# Altium integrated library TI Amplifiers and Linear Operational Amplifier High Speed.IntLib: 1100 symbols (part 4 of 44)
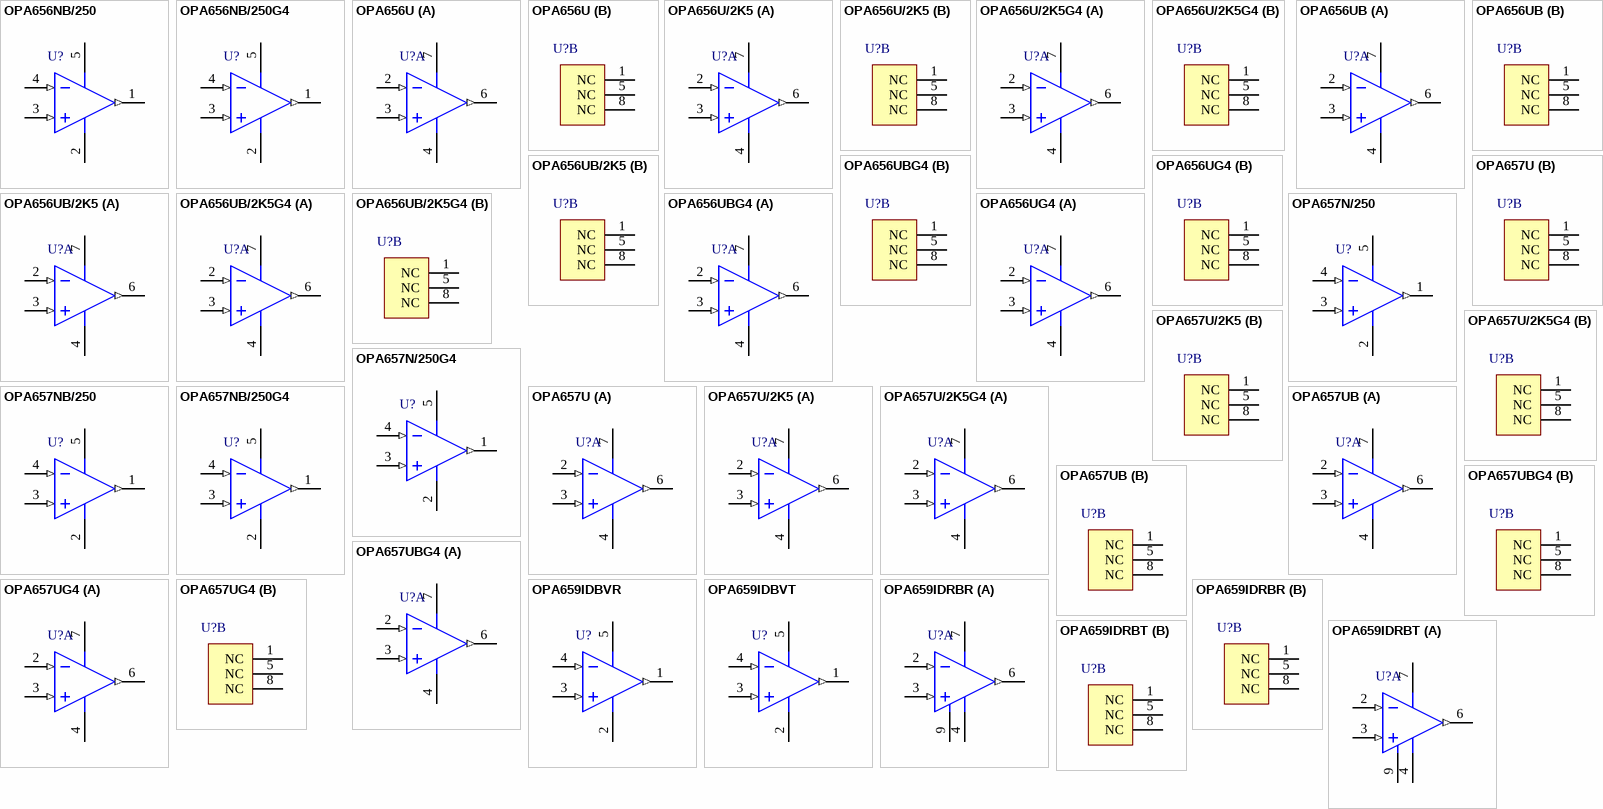
[diagram p54: symbols OPA656NB/250 to OPA659IDRBT]

## OPA659IDBVT
designator U?
650 MHz Unity Gain Stable JFET Input Amplifier, 7 to 13 V, -40 to 85 degC, 5-pin SOT23 (DBV5), Green (RoHS & no Sb/Br); Manufacturer: Texas Instruments; PartNumber: OPA659IDBVT; 2nd Harmonic(dBc): 79; 3rd Harmonic(dBc): 100; @ MHz: 10; Acl, min stable gain(V/V): 2; BW @ Acl(MHz): 650; Iib(Max)(nA): 1.2; Io(Typ)(mA): 70; Iq per channel(Max)(mA): 33.5; Number of Channels: 1; Slew Rate(Typ)(V/us): 2550; Sub Family: High Output Current Amplifier (>=50mA), High Speed Amplifier (>=50MHz); THD (Fc is 1 MHz)(Typ)(dB): -78; Vio(Max)(mV): 5; Vn at Flatband(Typ)(nV/rtHz): 8.9; Vs(Max)(V): 13; Vs(Min)(V): 7; DatasheetVersion: SBOS342B; PackageVersion: 4073253-4/K, 03/2006; PackageReference: DBV5; PackageDescription: 5-Pin Plastic Small Outline, Body 1.6 x 2.9 mm, Pitch 0.95 mm; Supplier 1: Digi-Key; Supplier Part Number 1: 296-24971-2-ND; Supplier 2: Digi-Key; Supplier Part Number 2: 296-24971-1-ND; Supplier 3: Digi-Key; Supplier Part Number 3: 296-24971-6-ND; Supplier 4: Farnell; Supplier Part Number 4: 1909738; Supplier 5: Newark; Supplier Part Number 5: 86W6765; Supplier 6: Newark; Supplier Part Number 6: 50R7822; Supplier 7: Newark; Supplier Part Number 7: 58T2107; Supplier 8: Mouser; Supplier Part Number 8: 595-OPA659IDBVT; Eco-Plan: Green (RoHS & no Sb/Br); Mounting Technology: Surface Mount; Code_JEDEC: MO-178; ComponentLink1Description: Manufacturer URL; ComponentLink1URL: http://www.ti.com/; ComponentLink2Description: Datasheet; ComponentLink2URL: http://www.ti.com/general/docs/lit/getliterature.tsp?genericPartNumber=OPA659&fileType=pdf; ComponentLink3Description: Package Specification; ComponentLink3URL: http://www.ti.com/litv/pdf/mpds018i
footprint TI-DBV5_N (SOT23, 5-Leads, Body 2.9x1.6mm, Pitch 0.95mm, IPC Medium Density)
footprint TI-DBV5_L (SOT23, 5-Leads, Body 2.9x1.6mm, Pitch 0.95mm, IPC High Density)
footprint TI-DBV5_M (SOT23, 5-Leads, Body 2.9x1.6mm, Pitch 0.95mm, IPC Low Density)
pins: 1 OUT (out), 2 VS- (power), 3 IN+ (in), 4 IN- (in), 5 VS+ (power)

## OPA659IDRBR
designator U?
650 MHz Unity Gain Stable JFET Input Amplifier, 7 to 13 V, -40 to 85 degC, 8-pin SON (DRB8), Green (RoHS & no Sb/Br); Manufacturer: Texas Instruments; PartNumber: OPA659IDRBR; 2nd Harmonic(dBc): 79; 3rd Harmonic(dBc): 100; @ MHz: 10; Acl, min stable gain(V/V): 2; BW @ Acl(MHz): 650; Iib(Max)(nA): 1.2; Io(Typ)(mA): 70; Iq per channel(Max)(mA): 33.5; Number of Channels: 1; Slew Rate(Typ)(V/us): 2550; Sub Family: High Output Current Amplifier (>=50mA), High Speed Amplifier (>=50MHz); THD (Fc is 1 MHz)(Typ)(dB): -78; Vio(Max)(mV): 5; Vn at Flatband(Typ)(nV/rtHz): 8.9; Vs(Max)(V): 13; Vs(Min)(V): 7; DatasheetVersion: SBOS342B; PackageVersion: 4203482-2/K, 06/2012; PackageReference: DRB8-1750X1500TP; PackageDescription: 8-Pin Plastic Small Outline, Body 3 x 3 mm, Pitch 0.65 mm; Supplier 1: Digi-Key; Supplier Part Number 1: OPA659IDRBR-ND; Supplier 2: Mouser; Supplier Part Number 2: 595-OPA659IDRBR; Eco-Plan: Green (RoHS & no Sb/Br); Mounting Technology: Surface Mount; ComponentLink1Description: Manufacturer URL; ComponentLink1URL: http://www.ti.com/; ComponentLink2Description: Datasheet; ComponentLink2URL: http://www.ti.com/general/docs/lit/getliterature.tsp?genericPartNumber=OPA659&fileType=pdf; ComponentLink3Description: Package Specification; ComponentLink3URL: http://www.ti.com/litv/pdf/mpds118h
footprint TI-DRB8-1750X1500TP_V (SON, 8-Leads, Body 3x3mm, Pitch 0.65mm, Thermal Pad 1.50 x 3.8mm)
part A pins: 2 IN- (in), 3 IN+ (in), 4 VS- (power), 6 OUT (out), 7 VS+ (power), 9 EP
part B pins: 1 NC "NC = not connected.", 5 NC "NC = not connected.", 8 NC "NC = not connected."

## OPA659IDRBT
designator U?
650 MHz Unity Gain Stable JFET Input Amplifier, 7 to 13 V, -40 to 85 degC, 8-pin SON (DRB8), Green (RoHS & no Sb/Br); Manufacturer: Texas Instruments; PartNumber: OPA659IDRBT; 2nd Harmonic(dBc): 79; 3rd Harmonic(dBc): 100; @ MHz: 10; Acl, min stable gain(V/V): 2; BW @ Acl(MHz): 650; Iib(Max)(nA): 1.2; Io(Typ)(mA): 70; Iq per channel(Max)(mA): 33.5; Number of Channels: 1; Settling Time (0.1%)(Typ)(ns): 8; Slew Rate(Typ)(V/us): 2550; Sub Family: High Output Current Amplifier (>=50mA), High Speed Amplifier (>=50MHz); THD (Fc is 1 MHz)(Typ)(dB): -78; Vn at Flatband(Typ)(nV/rtHz): 8.9; Vs(Max)(V): 13; Vs(Min)(V): 7; DatasheetVersion: SBOS342B; PackageVersion: 4203482-2/K, 06/2012; PackageReference: DRB8-1750X1500TP; PackageDescription: 8-Pin Plastic Small Outline, Body 3 x 3 mm, Pitch 0.65 mm; Supplier 1: Digi-Key; Supplier Part Number 1: 296-24074-2-ND; Supplier 2: Digi-Key; Supplier Part Number 2: 296-24074-1-ND; Supplier 3: Digi-Key; Supplier Part Number 3: 296-24074-6-ND; Supplier 4: Farnell; Supplier Part Number 4: 1710802; Supplier 5: Newark; Supplier Part Number 5: 46P3783; Supplier 6: Mouser; Supplier Part Number 6: 595-OPA659IDRBT; Eco-Plan: Green (RoHS & no Sb/Br); Vio(Max)(mV): 1; Mounting Technology: Surface Mount; ComponentLink1Description: Manufacturer URL; ComponentLink1URL: http://www.ti.com/; ComponentLink2Description: Datasheet; ComponentLink2URL: http://www.ti.com/general/docs/lit/getliterature.tsp?genericPartNumber=OPA659&fileType=pdf; ComponentLink3Description: Package Specification; ComponentLink3URL: http://www.ti.com/litv/pdf/mpds118h
footprint TI-DRB8-1750X1500TP_V (SON, 8-Leads, Body 3x3mm, Pitch 0.65mm, Thermal Pad 1.50 x 3.8mm)
part A pins: 2 IN- (in), 3 IN+ (in), 4 VS- (power), 6 OUT (out), 7 VS+ (power), 9 EP
part B pins: 1 NC "NC = not connected.", 5 NC "NC = not connected.", 8 NC "NC = not connected."

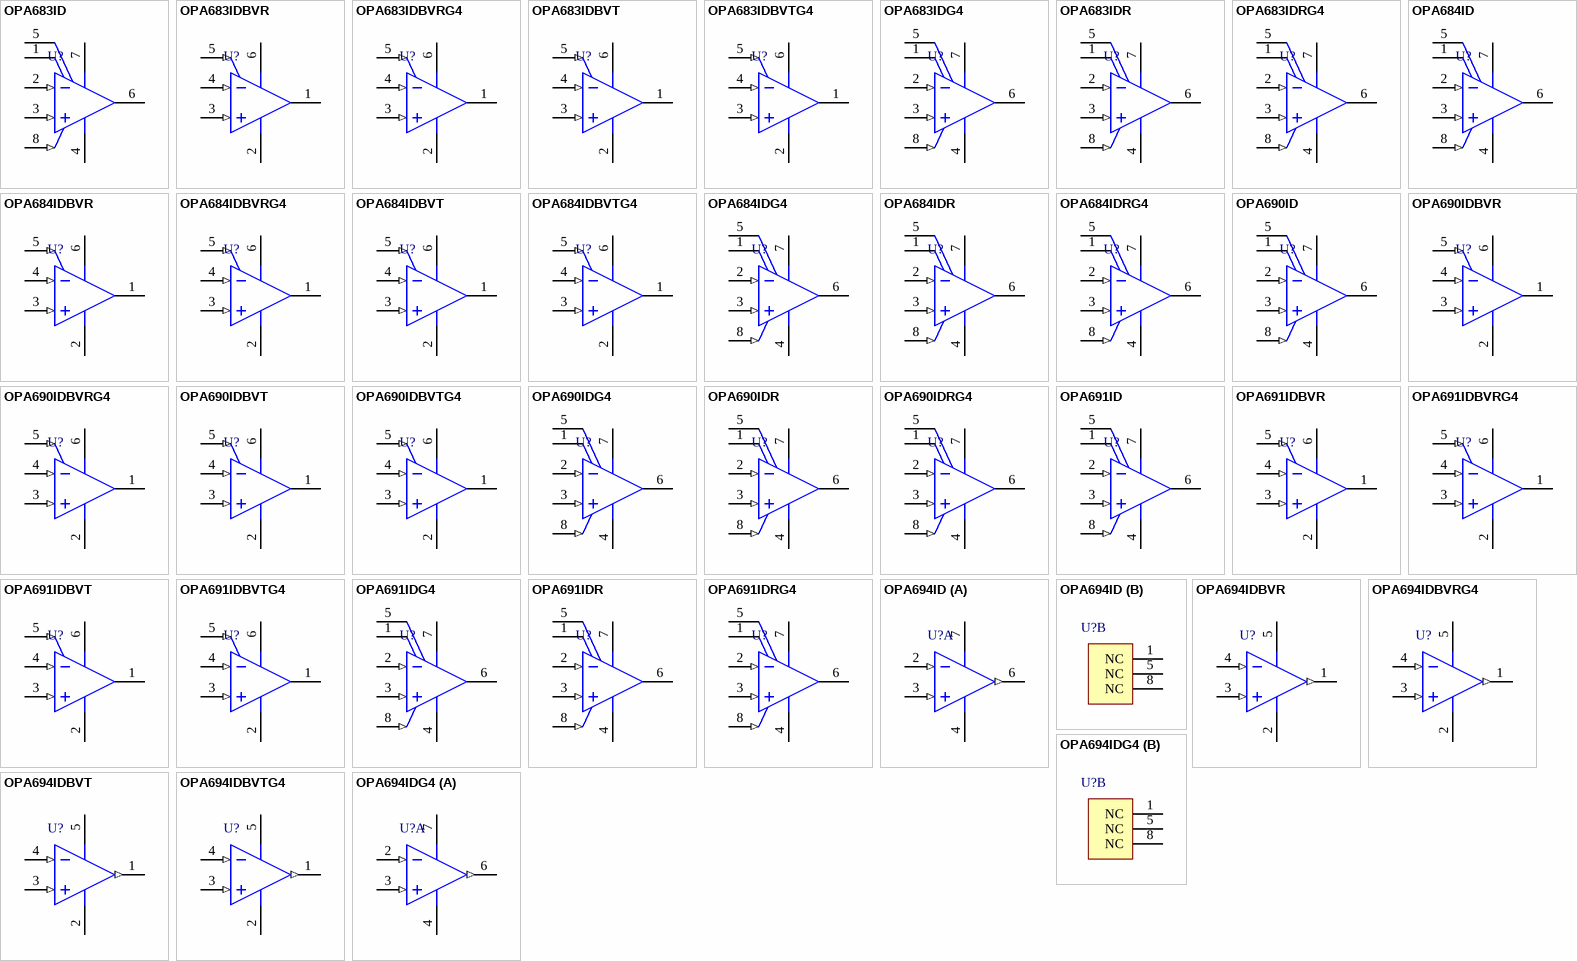
[diagram p3: symbols OPA683ID to OPA694IDG4]

## OPA683ID
designator U?
Very Low Power Current Feedback Amplifier with Disable, 5 to 12 V, -40 to 85 degC, 8-pin SOIC (D8), Green (RoHS & no Sb/Br); Manufacturer: Texas Instruments; PartNumber: OPA683ID; 2nd Harmonic(dBc): 72; 3rd Harmonic(dBc): 88; @ MHz: 5; Acl, min stable gain(V/V): 1; BW @ Acl(MHz): 200; Diff Gain(%): 0.13; Diff Phase(deg): 0.06; Iib(Max)(nA): 5300; Io(Typ)(mA): 110; Iq per channel(Max)(mA): 1.03; Settling Time (0.1%)(Typ)(ns): 12; Slew Rate(Typ)(V/us): 400; Sub Family: High Output Current Amplifier (>=50mA), High Speed Amplifier (>=50MHz); THD (Fc is 1 MHz)(Typ)(dB): -90; Vio(Max)(mV): 3.5; Vn at Flatband(Typ)(nV/rtHz): 4.4; DatasheetVersion: SBOS221E; PackageVersion: 4040047-3/M, 06/2011; PackageReference: D8; PackageDescription: 8-Pin Plastic Small Outline, Body 4.9 x 3.9 mm, Pitch 1.27 mm; Supplier 1: Digi-Key; Supplier Part Number 1: 296-12854-5-ND; Supplier 2: Farnell; Supplier Part Number 2: 1459642; Supplier 3: Newark; Supplier Part Number 3: 75C5170; Supplier 4: Mouser; Supplier Part Number 4: 595-OPA683ID; Eco-Plan: Green (RoHS & no Sb/Br); Number of Channels: 1; Vs(Max)(V): 12; Vs(Min)(V): 5; Mounting Technology: Surface Mount; Code_JEDEC: MS-012; ComponentLink1Description: Manufacturer URL; ComponentLink1URL: http://www.ti.com/; ComponentLink2Description: Datasheet; ComponentLink2URL: http://www.ti.com/general/docs/lit/getliterature.tsp?genericPartNumber=OPA683&fileType=pdf; ComponentLink3Description: Package Specification; ComponentLink3URL: http://www.ti.com/litv/pdf/msoi002j
footprint TI-D8_N (SOIC, 8-Leads, Body 4.9x3.9mm, Pitch 1.27mm, IPC Medium Density)
footprint TI-D8_L (SOIC, 8-Leads, Body 4.9x3.9mm, Pitch 1.27mm, IPC High Density)
footprint TI-D8_M (SOIC, 8-Leads, Body 4.9x3.9mm, Pitch 1.27mm, IPC Low Density)
pins: 1 NC, 2 IN- (in), 3 IN+ (in), 4 VS- (power), 5 NC, 6 OUT (hiz), 7 VS+ (power), 8 ~{DIS} (in)

## OPA683IDBVR
designator U?
Very Low Power Current Feedback Amplifier with Disable, 5 to 12 V, -40 to 85 degC, 6-pin SOT23 (DBV6), Green (RoHS & no Sb/Br); Manufacturer: Texas Instruments; PartNumber: OPA683IDBVR; 2nd Harmonic(dBc): 72; 3rd Harmonic(dBc): 88; @ MHz: 5; Acl, min stable gain(V/V): 1; BW @ Acl(MHz): 200; Diff Gain(%): 0.13; Diff Phase(deg): 0.06; Iib(Max)(nA): 5300; Io(Typ)(mA): 110; Iq per channel(Max)(mA): 1.03; Settling Time (0.1%)(Typ)(ns): 12; Slew Rate(Typ)(V/us): 400; Sub Family: High Output Current Amplifier (>=50mA), High Speed Amplifier (>=50MHz); THD (Fc is 1 MHz)(Typ)(dB): -90; Vio(Max)(mV): 3.5; Vn at Flatband(Typ)(nV/rtHz): 4.4; DatasheetVersion: SBOS221E; PackageVersion: 4073253-5/K, 03/2006; PackageReference: DBV6; PackageDescription: 6-Pin Plastic Small Outline, Body 1.6 x 2.9 mm, Pitch 0.95 mm; Supplier 1: Digi-Key; Supplier Part Number 1: OPA683IDBVR-ND; Supplier 2: Newark; Supplier Part Number 2: 75C5171; Supplier 3: Mouser; Supplier Part Number 3: 595-OPA683IDBVR; Eco-Plan: Green (RoHS & no Sb/Br); Number of Channels: 1; Vs(Max)(V): 12; Vs(Min)(V): 5; Mounting Technology: Surface Mount; Code_JEDEC: MO-178; ComponentLink1Description: Manufacturer URL; ComponentLink1URL: http://www.ti.com/; ComponentLink2Description: Datasheet; ComponentLink2URL: http://www.ti.com/general/docs/lit/getliterature.tsp?genericPartNumber=OPA683&fileType=pdf; ComponentLink3Description: Package Specification; ComponentLink3URL: http://www.ti.com/litv/pdf/mpds026h
footprint TI-DBV6_N (SOT23, 6-Leads, Body 2.9x1.6mm, Pitch 0.95mm, IPC Medium Density)
footprint TI-DBV6_L (SOT23, 6-Leads, Body 2.9x1.6mm, Pitch 0.95mm, IPC High Density)
footprint TI-DBV6_M (SOT23, 6-Leads, Body 2.9x1.6mm, Pitch 0.95mm, IPC Low Density)
pins: 1 OUT (hiz), 2 VS- (power), 3 IN+ (in), 4 IN- (in), 5 ~{DIS} (in), 6 VS+ (power)

## OPA683IDBVRG4
designator U?
Very Low Power Current Feedback Amplifier with Disable, 5 to 12 V, -40 to 85 degC, 6-pin SOT23 (DBV6), Green (RoHS & no Sb/Br); Manufacturer: Texas Instruments; PartNumber: OPA683IDBVRG4; 2nd Harmonic(dBc): 72; 3rd Harmonic(dBc): 88; @ MHz: 5; Acl, min stable gain(V/V): 1; BW @ Acl(MHz): 200; Diff Gain(%): 0.13; Diff Phase(deg): 0.06; Iib(Max)(nA): 5300; Io(Typ)(mA): 110; Iq per channel(Max)(mA): 1.03; Settling Time (0.1%)(Typ)(ns): 12; Slew Rate(Typ)(V/us): 400; Sub Family: High Output Current Amplifier (>=50mA), High Speed Amplifier (>=50MHz); THD (Fc is 1 MHz)(Typ)(dB): -90; Vio(Max)(mV): 3.5; Vn at Flatband(Typ)(nV/rtHz): 4.4; DatasheetVersion: SBOS221E; PackageVersion: 4073253-5/K, 03/2006; PackageReference: DBV6; PackageDescription: 6-Pin Plastic Small Outline, Body 1.6 x 2.9 mm, Pitch 0.95 mm; Supplier 1: Digi-Key; Supplier Part Number 1: OPA683IDBVRG4-ND; Supplier 2: Mouser; Supplier Part Number 2: 595-OPA683IDBVRG4; Eco-Plan: Green (RoHS & no Sb/Br); Number of Channels: 1; Vs(Max)(V): 12; Vs(Min)(V): 5; Mounting Technology: Surface Mount; Code_JEDEC: MO-178; ComponentLink1Description: Manufacturer URL; ComponentLink1URL: http://www.ti.com/; ComponentLink2Description: Datasheet; ComponentLink2URL: http://www.ti.com/general/docs/lit/getliterature.tsp?genericPartNumber=OPA683&fileType=pdf; ComponentLink3Description: Package Specification; ComponentLink3URL: http://www.ti.com/litv/pdf/mpds026h
footprint TI-DBV6_N (SOT23, 6-Leads, Body 2.9x1.6mm, Pitch 0.95mm, IPC Medium Density)
footprint TI-DBV6_L (SOT23, 6-Leads, Body 2.9x1.6mm, Pitch 0.95mm, IPC High Density)
footprint TI-DBV6_M (SOT23, 6-Leads, Body 2.9x1.6mm, Pitch 0.95mm, IPC Low Density)
pins: 1 OUT (hiz), 2 VS- (power), 3 IN+ (in), 4 IN- (in), 5 ~{DIS} (in), 6 VS+ (power)

## OPA683IDBVT
designator U?
Very Low Power Current Feedback Amplifier with Disable, 5 to 12 V, -40 to 85 degC, 6-pin SOT23 (DBV6), Green (RoHS & no Sb/Br); Manufacturer: Texas Instruments; PartNumber: OPA683IDBVT; 2nd Harmonic(dBc): 72; 3rd Harmonic(dBc): 88; @ MHz: 5; Acl, min stable gain(V/V): 1; BW @ Acl(MHz): 200; Diff Gain(%): 0.13; Diff Phase(deg): 0.06; Iib(Max)(nA): 5300; Io(Typ)(mA): 110; Iq per channel(Max)(mA): 1.03; Settling Time (0.1%)(Typ)(ns): 12; Slew Rate(Typ)(V/us): 400; Sub Family: High Output Current Amplifier (>=50mA), High Speed Amplifier (>=50MHz); THD (Fc is 1 MHz)(Typ)(dB): -90; Vio(Max)(mV): 3.5; Vn at Flatband(Typ)(nV/rtHz): 4.4; DatasheetVersion: SBOS221E; PackageVersion: 4073253-5/K, 03/2006; PackageReference: DBV6; PackageDescription: 6-Pin Plastic Small Outline, Body 1.6 x 2.9 mm, Pitch 0.95 mm; Supplier 1: Digi-Key; Supplier Part Number 1: 296-12855-2-ND; Supplier 2: Digi-Key; Supplier Part Number 2: 296-12855-1-ND; Supplier 3: Digi-Key; Supplier Part Number 3: 296-12855-6-ND; Supplier 4: Newark; Supplier Part Number 4: 75C5172; Supplier 5: Mouser; Supplier Part Number 5: 595-OPA683IDBVT; Eco-Plan: Green (RoHS & no Sb/Br); Number of Channels: 1; Vs(Max)(V): 12; Vs(Min)(V): 5; Mounting Technology: Surface Mount; Code_JEDEC: MO-178; ComponentLink1Description: Manufacturer URL; ComponentLink1URL: http://www.ti.com/; ComponentLink2Description: Datasheet; ComponentLink2URL: http://www.ti.com/general/docs/lit/getliterature.tsp?genericPartNumber=OPA683&fileType=pdf; ComponentLink3Description: Package Specification; ComponentLink3URL: http://www.ti.com/litv/pdf/mpds026h
footprint TI-DBV6_N (SOT23, 6-Leads, Body 2.9x1.6mm, Pitch 0.95mm, IPC Medium Density)
footprint TI-DBV6_L (SOT23, 6-Leads, Body 2.9x1.6mm, Pitch 0.95mm, IPC High Density)
footprint TI-DBV6_M (SOT23, 6-Leads, Body 2.9x1.6mm, Pitch 0.95mm, IPC Low Density)
pins: 1 OUT (hiz), 2 VS- (power), 3 IN+ (in), 4 IN- (in), 5 ~{DIS} (in), 6 VS+ (power)

## OPA683IDBVTG4
designator U?
Very Low Power Current Feedback Amplifier with Disable, 5 to 12 V, -40 to 85 degC, 6-pin SOT23 (DBV6), Green (RoHS & no Sb/Br); Manufacturer: Texas Instruments; PartNumber: OPA683IDBVTG4; 2nd Harmonic(dBc): 72; 3rd Harmonic(dBc): 88; @ MHz: 5; Acl, min stable gain(V/V): 1; BW @ Acl(MHz): 200; Diff Gain(%): 0.13; Diff Phase(deg): 0.06; Iib(Max)(nA): 5300; Io(Typ)(mA): 110; Iq per channel(Max)(mA): 1.03; Settling Time (0.1%)(Typ)(ns): 12; Slew Rate(Typ)(V/us): 400; Sub Family: High Output Current Amplifier (>=50mA), High Speed Amplifier (>=50MHz); THD (Fc is 1 MHz)(Typ)(dB): -90; Vio(Max)(mV): 3.5; Vn at Flatband(Typ)(nV/rtHz): 4.4; DatasheetVersion: SBOS221E; PackageVersion: 4073253-5/K, 03/2006; PackageReference: DBV6; PackageDescription: 6-Pin Plastic Small Outline, Body 1.6 x 2.9 mm, Pitch 0.95 mm; Supplier 1: Digi-Key; Supplier Part Number 1: OPA683IDBVTG4-ND; Supplier 2: Mouser; Supplier Part Number 2: 595-OPA683IDBVTG4; Eco-Plan: Green (RoHS & no Sb/Br); Number of Channels: 1; Vs(Max)(V): 12; Vs(Min)(V): 5; Mounting Technology: Surface Mount; Code_JEDEC: MO-178; ComponentLink1Description: Manufacturer URL; ComponentLink1URL: http://www.ti.com/; ComponentLink2Description: Datasheet; ComponentLink2URL: http://www.ti.com/general/docs/lit/getliterature.tsp?genericPartNumber=OPA683&fileType=pdf; ComponentLink3Description: Package Specification; ComponentLink3URL: http://www.ti.com/litv/pdf/mpds026h
footprint TI-DBV6_N (SOT23, 6-Leads, Body 2.9x1.6mm, Pitch 0.95mm, IPC Medium Density)
footprint TI-DBV6_L (SOT23, 6-Leads, Body 2.9x1.6mm, Pitch 0.95mm, IPC High Density)
footprint TI-DBV6_M (SOT23, 6-Leads, Body 2.9x1.6mm, Pitch 0.95mm, IPC Low Density)
pins: 1 OUT (hiz), 2 VS- (power), 3 IN+ (in), 4 IN- (in), 5 ~{DIS} (in), 6 VS+ (power)

## OPA683IDG4
designator U?
Very Low Power Current Feedback Amplifier with Disable, 5 to 12 V, -40 to 85 degC, 8-pin SOIC (D8), Green (RoHS & no Sb/Br); Manufacturer: Texas Instruments; PartNumber: OPA683IDG4; 2nd Harmonic(dBc): 72; 3rd Harmonic(dBc): 88; @ MHz: 5; Acl, min stable gain(V/V): 1; BW @ Acl(MHz): 200; Diff Gain(%): 0.13; Diff Phase(deg): 0.06; Iib(Max)(nA): 5300; Io(Typ)(mA): 110; Iq per channel(Max)(mA): 1.03; Settling Time (0.1%)(Typ)(ns): 12; Slew Rate(Typ)(V/us): 400; Sub Family: High Output Current Amplifier (>=50mA), High Speed Amplifier (>=50MHz); THD (Fc is 1 MHz)(Typ)(dB): -90; Vio(Max)(mV): 3.5; Vn at Flatband(Typ)(nV/rtHz): 4.4; DatasheetVersion: SBOS221E; PackageVersion: 4040047-3/M, 06/2011; PackageReference: D8; PackageDescription: 8-Pin Plastic Small Outline, Body 4.9 x 3.9 mm, Pitch 1.27 mm; Supplier 1: Digi-Key; Supplier Part Number 1: OPA683IDG4-ND; Supplier 2: Mouser; Supplier Part Number 2: 595-OPA683IDG4; Eco-Plan: Green (RoHS & no Sb/Br); Number of Channels: 1; Vs(Max)(V): 12; Vs(Min)(V): 5; Mounting Technology: Surface Mount; Code_JEDEC: MS-012; ComponentLink1Description: Manufacturer URL; ComponentLink1URL: http://www.ti.com/; ComponentLink2Description: Datasheet; ComponentLink2URL: http://www.ti.com/general/docs/lit/getliterature.tsp?genericPartNumber=OPA683&fileType=pdf; ComponentLink3Description: Package Specification; ComponentLink3URL: http://www.ti.com/litv/pdf/msoi002j
footprint TI-D8_N (SOIC, 8-Leads, Body 4.9x3.9mm, Pitch 1.27mm, IPC Medium Density)
footprint TI-D8_L (SOIC, 8-Leads, Body 4.9x3.9mm, Pitch 1.27mm, IPC High Density)
footprint TI-D8_M (SOIC, 8-Leads, Body 4.9x3.9mm, Pitch 1.27mm, IPC Low Density)
pins: 1 NC, 2 IN- (in), 3 IN+ (in), 4 VS- (power), 5 NC, 6 OUT (hiz), 7 VS+ (power), 8 ~{DIS} (in)

## OPA683IDR
designator U?
Very Low Power Current Feedback Amplifier with Disable, 5 to 12 V, -40 to 85 degC, 8-pin SOIC (D8), Green (RoHS & no Sb/Br); Manufacturer: Texas Instruments; PartNumber: OPA683IDR; 2nd Harmonic(dBc): 72; 3rd Harmonic(dBc): 88; @ MHz: 5; Acl, min stable gain(V/V): 1; BW @ Acl(MHz): 200; Diff Gain(%): 0.13; Diff Phase(deg): 0.06; Iib(Max)(nA): 5300; Io(Typ)(mA): 110; Iq per channel(Max)(mA): 1.03; Settling Time (0.1%)(Typ)(ns): 12; Slew Rate(Typ)(V/us): 400; Sub Family: High Output Current Amplifier (>=50mA), High Speed Amplifier (>=50MHz); THD (Fc is 1 MHz)(Typ)(dB): -90; Vio(Max)(mV): 3.5; Vn at Flatband(Typ)(nV/rtHz): 4.4; DatasheetVersion: SBOS221E; PackageVersion: 4040047-3/M, 06/2011; PackageReference: D8; PackageDescription: 8-Pin Plastic Small Outline, Body 4.9 x 3.9 mm, Pitch 1.27 mm; Supplier 1: Digi-Key; Supplier Part Number 1: OPA683IDR-ND; Supplier 2: Mouser; Supplier Part Number 2: 595-OPA683IDR; Eco-Plan: Green (RoHS & no Sb/Br); Number of Channels: 1; Vs(Max)(V): 12; Vs(Min)(V): 5; Mounting Technology: Surface Mount; Code_JEDEC: MS-012; ComponentLink1Description: Manufacturer URL; ComponentLink1URL: http://www.ti.com/; ComponentLink2Description: Datasheet; ComponentLink2URL: http://www.ti.com/general/docs/lit/getliterature.tsp?genericPartNumber=OPA683&fileType=pdf; ComponentLink3Description: Package Specification; ComponentLink3URL: http://www.ti.com/litv/pdf/msoi002j
footprint TI-D8_N (SOIC, 8-Leads, Body 4.9x3.9mm, Pitch 1.27mm, IPC Medium Density)
footprint TI-D8_L (SOIC, 8-Leads, Body 4.9x3.9mm, Pitch 1.27mm, IPC High Density)
footprint TI-D8_M (SOIC, 8-Leads, Body 4.9x3.9mm, Pitch 1.27mm, IPC Low Density)
pins: 1 NC, 2 IN- (in), 3 IN+ (in), 4 VS- (power), 5 NC, 6 OUT (hiz), 7 VS+ (power), 8 ~{DIS} (in)

## OPA683IDRG4
designator U?
Very Low Power Current Feedback Amplifier with Disable, 5 to 12 V, -40 to 85 degC, 8-pin SOIC (D8), Green (RoHS & no Sb/Br); Manufacturer: Texas Instruments; PartNumber: OPA683IDRG4; 2nd Harmonic(dBc): 63; 3rd Harmonic(dBc): 67; @ MHz: 5; Acl, min stable gain(V/V): 1; BW @ Acl(MHz): 200; Diff Gain(%): 0.06; Diff Phase(deg): 0.03; Iib(Max)(nA): 11500; Io(Typ)(mA): 110; Iq per channel(Max)(mA): 1.03; Settling Time (0.1%)(Typ)(ns): 60; Slew Rate(Typ)(V/us): 400; Sub Family: High Output Current Amplifier (>=50mA), High Speed Amplifier (>=50MHz); THD (Fc is 1 MHz)(Typ)(dB): -90; Vio(Max)(mV): 3.5; Vn at Flatband(Typ)(nV/rtHz): 4.4; Vs(Max)(V): 12; DatasheetVersion: SBOS221E; PackageVersion: 4040047-3/M, 06/2011; PackageReference: D8; PackageDescription: 8-Pin Plastic Small Outline, Body 4.9 x 3.9 mm, Pitch 1.27 mm; Supplier 1: Digi-Key; Supplier Part Number 1: OPA683IDRG4-ND; Supplier 2: Mouser; Supplier Part Number 2: 595-OPA683IDRG4; Eco-Plan: Green (RoHS & no Sb/Br); Number of Channels: 1; Vs(Min)(V): 5; Mounting Technology: Surface Mount; Code_JEDEC: MS-012; ComponentLink1Description: Manufacturer URL; ComponentLink1URL: http://www.ti.com/; ComponentLink2Description: Datasheet; ComponentLink2URL: http://www.ti.com/general/docs/lit/getliterature.tsp?genericPartNumber=OPA683&fileType=pdf; ComponentLink3Description: Package Specification; ComponentLink3URL: http://www.ti.com/litv/pdf/msoi002j
footprint TI-D8_N (SOIC, 8-Leads, Body 4.9x3.9mm, Pitch 1.27mm, IPC Medium Density)
footprint TI-D8_L (SOIC, 8-Leads, Body 4.9x3.9mm, Pitch 1.27mm, IPC High Density)
footprint TI-D8_M (SOIC, 8-Leads, Body 4.9x3.9mm, Pitch 1.27mm, IPC Low Density)
pins: 1 NC, 2 IN- (in), 3 IN+ (in), 4 VS- (power), 5 NC, 6 OUT (hiz), 7 VS+ (power), 8 ~{DIS} (in)

## OPA684ID
designator U?
Low-Power, Current Feedback Operational Amplifier with Disable, 5 to 12 V, -40 to 85 degC, 8-pin SOIC (D8), Green (RoHS & no Sb/Br); Manufacturer: Texas Instruments; PartNumber: OPA684ID; 2nd Harmonic(dBc): 80; @ MHz: 5; Acl, min stable gain(V/V): 1; BW @ Acl(MHz): 210; Diff Gain(%): 0.04; Diff Phase(deg): 0.02; Iib(Max)(nA): 13000; Io(Typ)(mA): 120; Iq per channel(Max)(mA): 3.9; Settling Time (0.1%)(Typ)(ns): 11; Slew Rate(Typ)(V/us): 820; Sub Family: High Output Current Amplifier (>=50mA), High Speed Amplifier (>=50MHz); THD (Fc is 1 MHz)(Typ)(dB): -79; Vio(Max)(mV): 3.5; Vn at Flatband(Typ)(nV/rtHz): 3.7; Vs(Max)(V): 12; DatasheetVersion: SBOS219D; PackageVersion: 4040047-3/M, 06/2011; PackageReference: D8; PackageDescription: 8-Pin Plastic Small Outline, Body 4.9 x 3.9 mm, Pitch 1.27 mm; Supplier 1: Digi-Key; Supplier Part Number 1: OPA684ID-ND; Supplier 2: Farnell; Supplier Part Number 2: 8434085; Supplier 3: Newark; Supplier Part Number 3: 75C5174; Supplier 4: Mouser; Supplier Part Number 4: 595-OPA684ID; 3rd Harmonic(dBc): 80; Eco-Plan: Green (RoHS & no Sb/Br); Number of Channels: 1; Vs(Min)(V): 5; Mounting Technology: Surface Mount; Code_JEDEC: MS-012; ComponentLink1Description: Manufacturer URL; ComponentLink1URL: http://www.ti.com/; ComponentLink2Description: Datasheet; ComponentLink2URL: http://www.ti.com/general/docs/lit/getliterature.tsp?genericPartNumber=OPA684&fileType=pdf; ComponentLink3Description: Package Specification; ComponentLink3URL: http://www.ti.com/litv/pdf/msoi002j
footprint TI-D8_N (SOIC, 8-Leads, Body 4.9x3.9mm, Pitch 1.27mm, IPC Medium Density)
footprint TI-D8_L (SOIC, 8-Leads, Body 4.9x3.9mm, Pitch 1.27mm, IPC High Density)
footprint TI-D8_M (SOIC, 8-Leads, Body 4.9x3.9mm, Pitch 1.27mm, IPC Low Density)
pins: 1 NC, 2 IN- (in), 3 IN+ (in), 4 VS- (power), 5 NC, 6 OUT (hiz), 7 VS+ (power), 8 ~{DIS} (in)

## OPA684IDBVR
designator U?
Low-Power, Current Feedback Operational Amplifier with Disable, 5 to 12 V, -40 to 85 degC, 6-pin SOT23 (DBV6), Green (RoHS & no Sb/Br); Manufacturer: Texas Instruments; PartNumber: OPA684IDBVR; 2nd Harmonic(dBc): 80; @ MHz: 5; Acl, min stable gain(V/V): 1; BW @ Acl(MHz): 210; Diff Gain(%): 0.04; Diff Phase(deg): 0.02; Iib(Max)(nA): 13000; Io(Typ)(mA): 120; Iq per channel(Max)(mA): 3.9; Settling Time (0.1%)(Typ)(ns): 11; Slew Rate(Typ)(V/us): 820; Sub Family: High Output Current Amplifier (>=50mA), High Speed Amplifier (>=50MHz); THD (Fc is 1 MHz)(Typ)(dB): -79; Vio(Max)(mV): 3.5; Vn at Flatband(Typ)(nV/rtHz): 3.7; Vs(Max)(V): 12; DatasheetVersion: SBOS219D; PackageVersion: 4073253-5/K, 03/2006; PackageReference: DBV6; PackageDescription: 6-Pin Plastic Small Outline, Body 1.6 x 2.9 mm, Pitch 0.95 mm; Supplier 1: Digi-Key; Supplier Part Number 1: OPA684IDBVR-ND; Supplier 2: Mouser; Supplier Part Number 2: 595-OPA684IDBVR; 3rd Harmonic(dBc): 80; Eco-Plan: Green (RoHS & no Sb/Br); Number of Channels: 1; Vs(Min)(V): 5; Mounting Technology: Surface Mount; Code_JEDEC: MO-178; ComponentLink1Description: Manufacturer URL; ComponentLink1URL: http://www.ti.com/; ComponentLink2Description: Datasheet; ComponentLink2URL: http://www.ti.com/general/docs/lit/getliterature.tsp?genericPartNumber=OPA684&fileType=pdf; ComponentLink3Description: Package Specification; ComponentLink3URL: http://www.ti.com/litv/pdf/mpds026h
footprint TI-DBV6_N (SOT23, 6-Leads, Body 2.9x1.6mm, Pitch 0.95mm, IPC Medium Density)
footprint TI-DBV6_L (SOT23, 6-Leads, Body 2.9x1.6mm, Pitch 0.95mm, IPC High Density)
footprint TI-DBV6_M (SOT23, 6-Leads, Body 2.9x1.6mm, Pitch 0.95mm, IPC Low Density)
pins: 1 OUT (hiz), 2 VS- (power), 3 IN+ (in), 4 IN- (in), 5 ~{DIS} (in), 6 VS+ (power)

## OPA684IDBVRG4
designator U?
Low-Power, Current Feedback Operational Amplifier with Disable, 5 to 12 V, -40 to 85 degC, 6-pin SOT23 (DBV6), Green (RoHS & no Sb/Br); Manufacturer: Texas Instruments; PartNumber: OPA684IDBVRG4; 2nd Harmonic(dBc): 80; @ MHz: 5; Acl, min stable gain(V/V): 1; BW @ Acl(MHz): 210; Diff Gain(%): 0.04; Diff Phase(deg): 0.02; Iib(Max)(nA): 13000; Io(Typ)(mA): 120; Iq per channel(Max)(mA): 3.9; Settling Time (0.1%)(Typ)(ns): 11; Slew Rate(Typ)(V/us): 820; Sub Family: High Output Current Amplifier (>=50mA), High Speed Amplifier (>=50MHz); THD (Fc is 1 MHz)(Typ)(dB): -79; Vio(Max)(mV): 3.5; Vn at Flatband(Typ)(nV/rtHz): 3.7; Vs(Max)(V): 12; DatasheetVersion: SBOS219D; PackageVersion: 4073253-5/K, 03/2006; PackageReference: DBV6; PackageDescription: 6-Pin Plastic Small Outline, Body 1.6 x 2.9 mm, Pitch 0.95 mm; Supplier 1: Digi-Key; Supplier Part Number 1: OPA684IDBVRG4-ND; Supplier 2: Mouser; Supplier Part Number 2: 595-OPA684IDBVRG4; 3rd Harmonic(dBc): 80; Eco-Plan: Green (RoHS & no Sb/Br); Number of Channels: 1; Vs(Min)(V): 5; Mounting Technology: Surface Mount; Code_JEDEC: MO-178; ComponentLink1Description: Manufacturer URL; ComponentLink1URL: http://www.ti.com/; ComponentLink2Description: Datasheet; ComponentLink2URL: http://www.ti.com/general/docs/lit/getliterature.tsp?genericPartNumber=OPA684&fileType=pdf; ComponentLink3Description: Package Specification; ComponentLink3URL: http://www.ti.com/litv/pdf/mpds026h
footprint TI-DBV6_N (SOT23, 6-Leads, Body 2.9x1.6mm, Pitch 0.95mm, IPC Medium Density)
footprint TI-DBV6_L (SOT23, 6-Leads, Body 2.9x1.6mm, Pitch 0.95mm, IPC High Density)
footprint TI-DBV6_M (SOT23, 6-Leads, Body 2.9x1.6mm, Pitch 0.95mm, IPC Low Density)
pins: 1 OUT (hiz), 2 VS- (power), 3 IN+ (in), 4 IN- (in), 5 ~{DIS} (in), 6 VS+ (power)

## OPA684IDBVT
designator U?
Low-Power, Current Feedback Operational Amplifier with Disable, 5 to 12 V, -40 to 85 degC, 6-pin SOT23 (DBV6), Green (RoHS & no Sb/Br); Manufacturer: Texas Instruments; PartNumber: OPA684IDBVT; 2nd Harmonic(dBc): 80; @ MHz: 5; Acl, min stable gain(V/V): 1; BW @ Acl(MHz): 210; Diff Gain(%): 0.04; Diff Phase(deg): 0.02; Iib(Max)(nA): 13000; Io(Typ)(mA): 120; Iq per channel(Max)(mA): 3.9; Settling Time (0.1%)(Typ)(ns): 11; Slew Rate(Typ)(V/us): 820; Sub Family: High Output Current Amplifier (>=50mA), High Speed Amplifier (>=50MHz); THD (Fc is 1 MHz)(Typ)(dB): -79; Vio(Max)(mV): 3.5; Vn at Flatband(Typ)(nV/rtHz): 3.7; Vs(Max)(V): 12; DatasheetVersion: SBOS219D; PackageVersion: 4073253-5/K, 03/2006; PackageReference: DBV6; PackageDescription: 6-Pin Plastic Small Outline, Body 1.6 x 2.9 mm, Pitch 0.95 mm; Supplier 1: Digi-Key; Supplier Part Number 1: 296-32194-2-ND; Supplier 2: Digi-Key; Supplier Part Number 2: 296-32194-1-ND; Supplier 3: Digi-Key; Supplier Part Number 3: 296-32194-6-ND; Supplier 4: Newark; Supplier Part Number 4: 75C5176; Supplier 5: Mouser; Supplier Part Number 5: 595-OPA684IDBVT; 3rd Harmonic(dBc): 80; Eco-Plan: Green (RoHS & no Sb/Br); Number of Channels: 1; Vs(Min)(V): 5; Mounting Technology: Surface Mount; Code_JEDEC: MO-178; ComponentLink1Description: Manufacturer URL; ComponentLink1URL: http://www.ti.com/; ComponentLink2Description: Datasheet; ComponentLink2URL: http://www.ti.com/general/docs/lit/getliterature.tsp?genericPartNumber=OPA684&fileType=pdf; ComponentLink3Description: Package Specification; ComponentLink3URL: http://www.ti.com/litv/pdf/mpds026h
footprint TI-DBV6_N (SOT23, 6-Leads, Body 2.9x1.6mm, Pitch 0.95mm, IPC Medium Density)
footprint TI-DBV6_L (SOT23, 6-Leads, Body 2.9x1.6mm, Pitch 0.95mm, IPC High Density)
footprint TI-DBV6_M (SOT23, 6-Leads, Body 2.9x1.6mm, Pitch 0.95mm, IPC Low Density)
pins: 1 OUT (hiz), 2 VS- (power), 3 IN+ (in), 4 IN- (in), 5 ~{DIS} (in), 6 VS+ (power)

## OPA684IDBVTG4
designator U?
Low-Power, Current Feedback Operational Amplifier with Disable, 5 to 12 V, -40 to 85 degC, 6-pin SOT23 (DBV6), Green (RoHS & no Sb/Br); Manufacturer: Texas Instruments; PartNumber: OPA684IDBVTG4; 2nd Harmonic(dBc): 80; @ MHz: 5; Acl, min stable gain(V/V): 1; BW @ Acl(MHz): 210; Diff Gain(%): 0.04; Diff Phase(deg): 0.02; Iib(Max)(nA): 13000; Io(Typ)(mA): 120; Iq per channel(Max)(mA): 3.9; Settling Time (0.1%)(Typ)(ns): 11; Slew Rate(Typ)(V/us): 820; Sub Family: High Output Current Amplifier (>=50mA), High Speed Amplifier (>=50MHz); THD (Fc is 1 MHz)(Typ)(dB): -79; Vio(Max)(mV): 3.5; Vn at Flatband(Typ)(nV/rtHz): 3.7; Vs(Max)(V): 12; DatasheetVersion: SBOS219D; PackageVersion: 4073253-5/K, 03/2006; PackageReference: DBV6; PackageDescription: 6-Pin Plastic Small Outline, Body 1.6 x 2.9 mm, Pitch 0.95 mm; Supplier 1: Digi-Key; Supplier Part Number 1: OPA684IDBVTG4-ND; Supplier 2: Newark; Supplier Part Number 2: 85K1353; Supplier 3: Mouser; Supplier Part Number 3: 595-OPA684IDBVTG4; 3rd Harmonic(dBc): 80; Eco-Plan: Green (RoHS & no Sb/Br); Number of Channels: 1; Vs(Min)(V): 5; Mounting Technology: Surface Mount; Code_JEDEC: MO-178; ComponentLink1Description: Manufacturer URL; ComponentLink1URL: http://www.ti.com/; ComponentLink2Description: Datasheet; ComponentLink2URL: http://www.ti.com/general/docs/lit/getliterature.tsp?genericPartNumber=OPA684&fileType=pdf; ComponentLink3Description: Package Specification; ComponentLink3URL: http://www.ti.com/litv/pdf/mpds026h
footprint TI-DBV6_N (SOT23, 6-Leads, Body 2.9x1.6mm, Pitch 0.95mm, IPC Medium Density)
footprint TI-DBV6_L (SOT23, 6-Leads, Body 2.9x1.6mm, Pitch 0.95mm, IPC High Density)
footprint TI-DBV6_M (SOT23, 6-Leads, Body 2.9x1.6mm, Pitch 0.95mm, IPC Low Density)
pins: 1 OUT (hiz), 2 VS- (power), 3 IN+ (in), 4 IN- (in), 5 ~{DIS} (in), 6 VS+ (power)

## OPA684IDG4
designator U?
Low-Power, Current Feedback Operational Amplifier with Disable, 5 to 12 V, -40 to 85 degC, 8-pin SOIC (D8), Green (RoHS & no Sb/Br); Manufacturer: Texas Instruments; PartNumber: OPA684IDG4; 2nd Harmonic(dBc): 80; @ MHz: 5; Acl, min stable gain(V/V): 1; BW @ Acl(MHz): 210; Diff Gain(%): 0.04; Diff Phase(deg): 0.02; Iib(Max)(nA): 13000; Io(Typ)(mA): 120; Iq per channel(Max)(mA): 3.9; Settling Time (0.1%)(Typ)(ns): 11; Slew Rate(Typ)(V/us): 820; Sub Family: High Output Current Amplifier (>=50mA), High Speed Amplifier (>=50MHz); THD (Fc is 1 MHz)(Typ)(dB): -79; Vio(Max)(mV): 3.5; Vn at Flatband(Typ)(nV/rtHz): 3.7; Vs(Max)(V): 12; DatasheetVersion: SBOS219D; PackageVersion: 4040047-3/M, 06/2011; PackageReference: D8; PackageDescription: 8-Pin Plastic Small Outline, Body 4.9 x 3.9 mm, Pitch 1.27 mm; Supplier 1: Digi-Key; Supplier Part Number 1: OPA684IDG4-ND; Supplier 2: Newark; Supplier Part Number 2: 70K4117; Supplier 3: Mouser; Supplier Part Number 3: 595-OPA684IDG4; 3rd Harmonic(dBc): 80; Eco-Plan: Green (RoHS & no Sb/Br); Number of Channels: 1; Vs(Min)(V): 5; Mounting Technology: Surface Mount; Code_JEDEC: MS-012; ComponentLink1Description: Manufacturer URL; ComponentLink1URL: http://www.ti.com/; ComponentLink2Description: Datasheet; ComponentLink2URL: http://www.ti.com/general/docs/lit/getliterature.tsp?genericPartNumber=OPA684&fileType=pdf; ComponentLink3Description: Package Specification; ComponentLink3URL: http://www.ti.com/litv/pdf/msoi002j
footprint TI-D8_N (SOIC, 8-Leads, Body 4.9x3.9mm, Pitch 1.27mm, IPC Medium Density)
footprint TI-D8_L (SOIC, 8-Leads, Body 4.9x3.9mm, Pitch 1.27mm, IPC High Density)
footprint TI-D8_M (SOIC, 8-Leads, Body 4.9x3.9mm, Pitch 1.27mm, IPC Low Density)
pins: 1 NC, 2 IN- (in), 3 IN+ (in), 4 VS- (power), 5 NC, 6 OUT (hiz), 7 VS+ (power), 8 ~{DIS} (in)

## OPA684IDR
designator U?
Low-Power, Current Feedback Operational Amplifier with Disable, 5 to 12 V, -40 to 85 degC, 8-pin SOIC (D8), Green (RoHS & no Sb/Br); Manufacturer: Texas Instruments; PartNumber: OPA684IDR; 2nd Harmonic(dBc): 80; @ MHz: 5; Acl, min stable gain(V/V): 1; BW @ Acl(MHz): 210; Diff Gain(%): 0.04; Diff Phase(deg): 0.02; Iib(Max)(nA): 13000; Io(Typ)(mA): 120; Iq per channel(Max)(mA): 3.9; Settling Time (0.1%)(Typ)(ns): 11; Slew Rate(Typ)(V/us): 820; Sub Family: High Output Current Amplifier (>=50mA), High Speed Amplifier (>=50MHz); THD (Fc is 1 MHz)(Typ)(dB): -79; Vio(Max)(mV): 3.5; Vn at Flatband(Typ)(nV/rtHz): 3.7; Vs(Max)(V): 12; DatasheetVersion: SBOS219D; PackageVersion: 4040047-3/M, 06/2011; PackageReference: D8; PackageDescription: 8-Pin Plastic Small Outline, Body 4.9 x 3.9 mm, Pitch 1.27 mm; Supplier 1: Digi-Key; Supplier Part Number 1: OPA684IDR-ND; Supplier 2: Newark; Supplier Part Number 2: 75C5177; Supplier 3: Mouser; Supplier Part Number 3: 595-OPA684IDR; 3rd Harmonic(dBc): 80; Eco-Plan: Green (RoHS & no Sb/Br); Number of Channels: 1; Vs(Min)(V): 5; Mounting Technology: Surface Mount; Code_JEDEC: MS-012; ComponentLink1Description: Manufacturer URL; ComponentLink1URL: http://www.ti.com/; ComponentLink2Description: Datasheet; ComponentLink2URL: http://www.ti.com/general/docs/lit/getliterature.tsp?genericPartNumber=OPA684&fileType=pdf; ComponentLink3Description: Package Specification; ComponentLink3URL: http://www.ti.com/litv/pdf/msoi002j
footprint TI-D8_N (SOIC, 8-Leads, Body 4.9x3.9mm, Pitch 1.27mm, IPC Medium Density)
footprint TI-D8_L (SOIC, 8-Leads, Body 4.9x3.9mm, Pitch 1.27mm, IPC High Density)
footprint TI-D8_M (SOIC, 8-Leads, Body 4.9x3.9mm, Pitch 1.27mm, IPC Low Density)
pins: 1 NC, 2 IN- (in), 3 IN+ (in), 4 VS- (power), 5 NC, 6 OUT (hiz), 7 VS+ (power), 8 ~{DIS} (in)

## OPA684IDRG4
designator U?
Low-Power, Current Feedback Operational Amplifier with Disable, 5 to 12 V, -40 to 85 degC, 8-pin SOIC (D8), Green (RoHS & no Sb/Br); Manufacturer: Texas Instruments; PartNumber: OPA684IDRG4; 2nd Harmonic(dBc): 67; 3rd Harmonic(dBc): 70; @ MHz: 5; Acl, min stable gain(V/V): 1; BW @ Acl(MHz): 210; Diff Gain(%): 0.04; Diff Phase(deg): 0.02; Iib(Max)(nA): 18500; Io(Typ)(mA): 120; Iq per channel(Max)(mA): 1.85; Settling Time (0.1%)(Typ)(ns): 11; Slew Rate(Typ)(V/us): 820; Sub Family: High Output Current Amplifier (>=50mA), High Speed Amplifier (>=50MHz); THD (Fc is 1 MHz)(Typ)(dB): -79; Vio(Max)(mV): 4.3; Vn at Flatband(Typ)(nV/rtHz): 3.7; Vs(Max)(V): 12; DatasheetVersion: SBOS219D; PackageVersion: 4040047-3/M, 06/2011; PackageReference: D8; PackageDescription: 8-Pin Plastic Small Outline, Body 4.9 x 3.9 mm, Pitch 1.27 mm; Supplier 1: Digi-Key; Supplier Part Number 1: OPA684IDRG4-ND; Supplier 2: Mouser; Supplier Part Number 2: 595-OPA684IDRG4; Eco-Plan: Green (RoHS & no Sb/Br); Number of Channels: 1; Vs(Min)(V): 5; Mounting Technology: Surface Mount; Code_JEDEC: MS-012; ComponentLink1Description: Manufacturer URL; ComponentLink1URL: http://www.ti.com/; ComponentLink2Description: Datasheet; ComponentLink2URL: http://www.ti.com/general/docs/lit/getliterature.tsp?genericPartNumber=OPA684&fileType=pdf; ComponentLink3Description: Package Specification; ComponentLink3URL: http://www.ti.com/litv/pdf/msoi002j
footprint TI-D8_N (SOIC, 8-Leads, Body 4.9x3.9mm, Pitch 1.27mm, IPC Medium Density)
footprint TI-D8_L (SOIC, 8-Leads, Body 4.9x3.9mm, Pitch 1.27mm, IPC High Density)
footprint TI-D8_M (SOIC, 8-Leads, Body 4.9x3.9mm, Pitch 1.27mm, IPC Low Density)
pins: 1 NC, 2 IN- (in), 3 IN+ (in), 4 VS- (power), 5 NC, 6 OUT (hiz), 7 VS+ (power), 8 ~{DIS} (in)

## OPA690ID
designator U?
Wideband, Voltage Feedback Operational Amplifier with Disable, 5 to 12 V, -40 to 85 degC, 8-pin SOIC (D8), Green (RoHS & no Sb/Br); Manufacturer: Texas Instruments; PartNumber: OPA690ID; 2nd Harmonic(dBc): 77; 3rd Harmonic(dBc): 81; @ MHz: 5; Acl, min stable gain(V/V): 1; BW @ Acl(MHz): 500; Diff Gain(%): 0.06; Diff Phase(deg): 0.03; Iib(Max)(nA): 11000; Io(Typ)(mA): 190; Iq per channel(Max)(mA): 6.2; Settling Time (0.1%)(Typ)(ns): 8; Slew Rate(Typ)(V/us): 1800; Sub Family: High Output Current Amplifier (>=50mA), High Speed Amplifier (>=50MHz); THD (Fc is 1 MHz)(Typ)(dB): -80; Vio(Max)(mV): 4.5; Vn at Flatband(Typ)(nV/rtHz): 5.5; Vs(Max)(V): 12; DatasheetVersion: SBOS223F; PackageVersion: 4040047-3/M, 06/2011; PackageReference: D8; PackageDescription: 8-Pin Plastic Small Outline, Body 4.9 x 3.9 mm, Pitch 1.27 mm; Supplier 1: Digi-Key; Supplier Part Number 1: OPA690ID-ND; Supplier 2: Newark; Supplier Part Number 2: 75C5190; Supplier 3: Mouser; Supplier Part Number 3: 595-OPA690ID; Eco-Plan: Green (RoHS & no Sb/Br); Number of Channels: 1; Vs(Min)(V): 5; Mounting Technology: Surface Mount; Code_JEDEC: MS-012; ComponentLink1Description: Manufacturer URL; ComponentLink1URL: http://www.ti.com/; ComponentLink2Description: Datasheet; ComponentLink2URL: http://www.ti.com/general/docs/lit/getliterature.tsp?genericPartNumber=OPA690&fileType=pdf; ComponentLink3Description: Package Specification; ComponentLink3URL: http://www.ti.com/litv/pdf/msoi002j
footprint TI-D8_N (SOIC, 8-Leads, Body 4.9x3.9mm, Pitch 1.27mm, IPC Medium Density)
footprint TI-D8_L (SOIC, 8-Leads, Body 4.9x3.9mm, Pitch 1.27mm, IPC High Density)
footprint TI-D8_M (SOIC, 8-Leads, Body 4.9x3.9mm, Pitch 1.27mm, IPC Low Density)
pins: 1 NC, 2 IN- (in), 3 IN+ (in), 4 VS- (power), 5 NC, 6 OUT (hiz), 7 VS+ (power), 8 ~{DIS} (in)

## OPA690IDBVR
designator U?
Wideband, Voltage Feedback Operational Amplifier with Disable, 5 to 12 V, -40 to 85 degC, 6-pin SOT23 (DBV6), Green (RoHS & no Sb/Br); Manufacturer: Texas Instruments; PartNumber: OPA690IDBVR; 2nd Harmonic(dBc): 77; 3rd Harmonic(dBc): 81; @ MHz: 5; Acl, min stable gain(V/V): 1; BW @ Acl(MHz): 500; Diff Gain(%): 0.06; Diff Phase(deg): 0.03; Iib(Max)(nA): 11000; Io(Typ)(mA): 190; Iq per channel(Max)(mA): 6.2; Settling Time (0.1%)(Typ)(ns): 8; Slew Rate(Typ)(V/us): 1800; Sub Family: High Output Current Amplifier (>=50mA), High Speed Amplifier (>=50MHz); THD (Fc is 1 MHz)(Typ)(dB): -80; Vio(Max)(mV): 4.5; Vn at Flatband(Typ)(nV/rtHz): 5.5; Vs(Max)(V): 12; DatasheetVersion: SBOS223F; PackageVersion: 4073253-5/K, 03/2006; PackageReference: DBV6; PackageDescription: 6-Pin Plastic Small Outline, Body 1.6 x 2.9 mm, Pitch 0.95 mm; Supplier 1: Digi-Key; Supplier Part Number 1: OPA690IDBVR-ND; Supplier 2: Newark; Supplier Part Number 2: 75C5191; Supplier 3: Mouser; Supplier Part Number 3: 595-OPA690IDBVR; Eco-Plan: Green (RoHS & no Sb/Br); Number of Channels: 1; Vs(Min)(V): 5; Mounting Technology: Surface Mount; Code_JEDEC: MO-178; ComponentLink1Description: Manufacturer URL; ComponentLink1URL: http://www.ti.com/; ComponentLink2Description: Datasheet; ComponentLink2URL: http://www.ti.com/general/docs/lit/getliterature.tsp?genericPartNumber=OPA690&fileType=pdf; ComponentLink3Description: Package Specification; ComponentLink3URL: http://www.ti.com/litv/pdf/mpds026h
footprint TI-DBV6_N (SOT23, 6-Leads, Body 2.9x1.6mm, Pitch 0.95mm, IPC Medium Density)
footprint TI-DBV6_L (SOT23, 6-Leads, Body 2.9x1.6mm, Pitch 0.95mm, IPC High Density)
footprint TI-DBV6_M (SOT23, 6-Leads, Body 2.9x1.6mm, Pitch 0.95mm, IPC Low Density)
pins: 1 OUT (hiz), 2 VS- (power), 3 IN+ (in), 4 IN- (in), 5 ~{DIS} (in), 6 VS+ (power)

## OPA690IDBVRG4
designator U?
Wideband, Voltage Feedback Operational Amplifier with Disable, 5 to 12 V, -40 to 85 degC, 6-pin SOT23 (DBV6), Green (RoHS & no Sb/Br); Manufacturer: Texas Instruments; PartNumber: OPA690IDBVRG4; 2nd Harmonic(dBc): 77; 3rd Harmonic(dBc): 81; @ MHz: 5; Acl, min stable gain(V/V): 1; BW @ Acl(MHz): 500; Diff Gain(%): 0.06; Diff Phase(deg): 0.03; Iib(Max)(nA): 11000; Io(Typ)(mA): 190; Iq per channel(Max)(mA): 6.2; Settling Time (0.1%)(Typ)(ns): 8; Slew Rate(Typ)(V/us): 1800; Sub Family: High Output Current Amplifier (>=50mA), High Speed Amplifier (>=50MHz); THD (Fc is 1 MHz)(Typ)(dB): -80; Vio(Max)(mV): 4.5; Vn at Flatband(Typ)(nV/rtHz): 5.5; Vs(Max)(V): 12; DatasheetVersion: SBOS223F; PackageVersion: 4073253-5/K, 03/2006; PackageReference: DBV6; PackageDescription: 6-Pin Plastic Small Outline, Body 1.6 x 2.9 mm, Pitch 0.95 mm; Supplier 1: Digi-Key; Supplier Part Number 1: OPA690IDBVRG4-ND; Supplier 2: Mouser; Supplier Part Number 2: 595-OPA690IDBVRG4; Eco-Plan: Green (RoHS & no Sb/Br); Number of Channels: 1; Vs(Min)(V): 5; Mounting Technology: Surface Mount; Code_JEDEC: MO-178; ComponentLink1Description: Manufacturer URL; ComponentLink1URL: http://www.ti.com/; ComponentLink2Description: Datasheet; ComponentLink2URL: http://www.ti.com/general/docs/lit/getliterature.tsp?genericPartNumber=OPA690&fileType=pdf; ComponentLink3Description: Package Specification; ComponentLink3URL: http://www.ti.com/litv/pdf/mpds026h
footprint TI-DBV6_N (SOT23, 6-Leads, Body 2.9x1.6mm, Pitch 0.95mm, IPC Medium Density)
footprint TI-DBV6_L (SOT23, 6-Leads, Body 2.9x1.6mm, Pitch 0.95mm, IPC High Density)
footprint TI-DBV6_M (SOT23, 6-Leads, Body 2.9x1.6mm, Pitch 0.95mm, IPC Low Density)
pins: 1 OUT (hiz), 2 VS- (power), 3 IN+ (in), 4 IN- (in), 5 ~{DIS} (in), 6 VS+ (power)

## OPA690IDBVT
designator U?
Wideband, Voltage Feedback Operational Amplifier with Disable, 5 to 12 V, -40 to 85 degC, 6-pin SOT23 (DBV6), Green (RoHS & no Sb/Br); Manufacturer: Texas Instruments; PartNumber: OPA690IDBVT; 2nd Harmonic(dBc): 77; 3rd Harmonic(dBc): 81; @ MHz: 5; Acl, min stable gain(V/V): 1; BW @ Acl(MHz): 500; Diff Gain(%): 0.06; Diff Phase(deg): 0.03; Iib(Max)(nA): 11000; Io(Typ)(mA): 190; Iq per channel(Max)(mA): 6.2; Settling Time (0.1%)(Typ)(ns): 8; Slew Rate(Typ)(V/us): 1800; Sub Family: High Output Current Amplifier (>=50mA), High Speed Amplifier (>=50MHz); THD (Fc is 1 MHz)(Typ)(dB): -80; Vio(Max)(mV): 4.5; Vn at Flatband(Typ)(nV/rtHz): 5.5; Vs(Max)(V): 12; DatasheetVersion: SBOS223F; PackageVersion: 4073253-5/K, 03/2006; PackageReference: DBV6; PackageDescription: 6-Pin Plastic Small Outline, Body 1.6 x 2.9 mm, Pitch 0.95 mm; Supplier 1: Digi-Key; Supplier Part Number 1: OPA690IDBVTTR-ND; Supplier 2: Digi-Key; Supplier Part Number 2: OPA690IDBVTCT-ND; Supplier 3: Digi-Key; Supplier Part Number 3: OPA690IDBVTDKR-ND; Supplier 4: Newark; Supplier Part Number 4: 75C5192; Supplier 5: Mouser; Supplier Part Number 5: 595-OPA690IDBVT; Eco-Plan: Green (RoHS & no Sb/Br); Number of Channels: 1; Vs(Min)(V): 5; Mounting Technology: Surface Mount; Code_JEDEC: MO-178; ComponentLink1Description: Manufacturer URL; ComponentLink1URL: http://www.ti.com/; ComponentLink2Description: Datasheet; ComponentLink2URL: http://www.ti.com/general/docs/lit/getliterature.tsp?genericPartNumber=OPA690&fileType=pdf; ComponentLink3Description: Package Specification; ComponentLink3URL: http://www.ti.com/litv/pdf/mpds026h
footprint TI-DBV6_N (SOT23, 6-Leads, Body 2.9x1.6mm, Pitch 0.95mm, IPC Medium Density)
footprint TI-DBV6_L (SOT23, 6-Leads, Body 2.9x1.6mm, Pitch 0.95mm, IPC High Density)
footprint TI-DBV6_M (SOT23, 6-Leads, Body 2.9x1.6mm, Pitch 0.95mm, IPC Low Density)
pins: 1 OUT (hiz), 2 VS- (power), 3 IN+ (in), 4 IN- (in), 5 ~{DIS} (in), 6 VS+ (power)

## OPA690IDBVTG4
designator U?
Wideband, Voltage Feedback Operational Amplifier with Disable, 5 to 12 V, -40 to 85 degC, 6-pin SOT23 (DBV6), Green (RoHS & no Sb/Br); Manufacturer: Texas Instruments; PartNumber: OPA690IDBVTG4; 2nd Harmonic(dBc): 77; 3rd Harmonic(dBc): 81; @ MHz: 5; Acl, min stable gain(V/V): 1; BW @ Acl(MHz): 500; Diff Gain(%): 0.06; Diff Phase(deg): 0.03; Iib(Max)(nA): 11000; Io(Typ)(mA): 190; Iq per channel(Max)(mA): 6.2; Settling Time (0.1%)(Typ)(ns): 8; Slew Rate(Typ)(V/us): 1800; Sub Family: High Output Current Amplifier (>=50mA), High Speed Amplifier (>=50MHz); THD (Fc is 1 MHz)(Typ)(dB): -80; Vio(Max)(mV): 4.5; Vn at Flatband(Typ)(nV/rtHz): 5.5; Vs(Max)(V): 12; DatasheetVersion: SBOS223F; PackageVersion: 4073253-5/K, 03/2006; PackageReference: DBV6; PackageDescription: 6-Pin Plastic Small Outline, Body 1.6 x 2.9 mm, Pitch 0.95 mm; Supplier 1: Digi-Key; Supplier Part Number 1: OPA690IDBVTG4-ND; Supplier 2: Farnell; Supplier Part Number 2: 1207069; Supplier 3: Newark; Supplier Part Number 3: 97K6856; Supplier 4: Mouser; Supplier Part Number 4: 595-OPA690IDBVTG4; Eco-Plan: Green (RoHS & no Sb/Br); Number of Channels: 1; Vs(Min)(V): 5; Mounting Technology: Surface Mount; Code_JEDEC: MO-178; ComponentLink1Description: Manufacturer URL; ComponentLink1URL: http://www.ti.com/; ComponentLink2Description: Datasheet; ComponentLink2URL: http://www.ti.com/general/docs/lit/getliterature.tsp?genericPartNumber=OPA690&fileType=pdf; ComponentLink3Description: Package Specification; ComponentLink3URL: http://www.ti.com/litv/pdf/mpds026h
footprint TI-DBV6_N (SOT23, 6-Leads, Body 2.9x1.6mm, Pitch 0.95mm, IPC Medium Density)
footprint TI-DBV6_L (SOT23, 6-Leads, Body 2.9x1.6mm, Pitch 0.95mm, IPC High Density)
footprint TI-DBV6_M (SOT23, 6-Leads, Body 2.9x1.6mm, Pitch 0.95mm, IPC Low Density)
pins: 1 OUT (hiz), 2 VS- (power), 3 IN+ (in), 4 IN- (in), 5 ~{DIS} (in), 6 VS+ (power)

## OPA690IDG4
designator U?
Wideband, Voltage Feedback Operational Amplifier with Disable, 5 to 12 V, -40 to 85 degC, 8-pin SOIC (D8), Green (RoHS & no Sb/Br); Manufacturer: Texas Instruments; PartNumber: OPA690IDG4; 2nd Harmonic(dBc): 77; 3rd Harmonic(dBc): 81; @ MHz: 5; Acl, min stable gain(V/V): 1; BW @ Acl(MHz): 500; Diff Gain(%): 0.06; Diff Phase(deg): 0.03; Iib(Max)(nA): 11000; Io(Typ)(mA): 190; Iq per channel(Max)(mA): 6.2; Settling Time (0.1%)(Typ)(ns): 8; Slew Rate(Typ)(V/us): 1800; Sub Family: High Output Current Amplifier (>=50mA), High Speed Amplifier (>=50MHz); THD (Fc is 1 MHz)(Typ)(dB): -80; Vio(Max)(mV): 4.5; Vn at Flatband(Typ)(nV/rtHz): 5.5; Vs(Max)(V): 12; DatasheetVersion: SBOS223F; PackageVersion: 4040047-3/M, 06/2011; PackageReference: D8; PackageDescription: 8-Pin Plastic Small Outline, Body 4.9 x 3.9 mm, Pitch 1.27 mm; Supplier 1: Digi-Key; Supplier Part Number 1: OPA690IDG4-ND; Supplier 2: Farnell; Supplier Part Number 2: 1207068; Supplier 3: Newark; Supplier Part Number 3: 97K6857; Supplier 4: Newark; Supplier Part Number 4: 43K9389; Supplier 5: Mouser; Supplier Part Number 5: 595-OPA690IDG4; Eco-Plan: Green (RoHS & no Sb/Br); Number of Channels: 1; Vs(Min)(V): 5; Mounting Technology: Surface Mount; Code_JEDEC: MS-012; ComponentLink1Description: Manufacturer URL; ComponentLink1URL: http://www.ti.com/; ComponentLink2Description: Datasheet; ComponentLink2URL: http://www.ti.com/general/docs/lit/getliterature.tsp?genericPartNumber=OPA690&fileType=pdf; ComponentLink3Description: Package Specification; ComponentLink3URL: http://www.ti.com/litv/pdf/msoi002j
footprint TI-D8_N (SOIC, 8-Leads, Body 4.9x3.9mm, Pitch 1.27mm, IPC Medium Density)
footprint TI-D8_L (SOIC, 8-Leads, Body 4.9x3.9mm, Pitch 1.27mm, IPC High Density)
footprint TI-D8_M (SOIC, 8-Leads, Body 4.9x3.9mm, Pitch 1.27mm, IPC Low Density)
pins: 1 NC, 2 IN- (in), 3 IN+ (in), 4 VS- (power), 5 NC, 6 OUT (hiz), 7 VS+ (power), 8 ~{DIS} (in)

## OPA690IDR
designator U?
Wideband, Voltage Feedback Operational Amplifier with Disable, 5 to 12 V, -40 to 85 degC, 8-pin SOIC (D8), Green (RoHS & no Sb/Br); Manufacturer: Texas Instruments; PartNumber: OPA690IDR; 2nd Harmonic(dBc): 77; 3rd Harmonic(dBc): 81; @ MHz: 5; Acl, min stable gain(V/V): 1; BW @ Acl(MHz): 500; Diff Gain(%): 0.06; Diff Phase(deg): 0.03; Iib(Max)(nA): 11000; Io(Typ)(mA): 190; Iq per channel(Max)(mA): 6.2; Settling Time (0.1%)(Typ)(ns): 8; Slew Rate(Typ)(V/us): 1800; Sub Family: High Output Current Amplifier (>=50mA), High Speed Amplifier (>=50MHz); THD (Fc is 1 MHz)(Typ)(dB): -80; Vio(Max)(mV): 4.5; Vn at Flatband(Typ)(nV/rtHz): 5.5; Vs(Max)(V): 12; DatasheetVersion: SBOS223F; PackageVersion: 4040047-3/M, 06/2011; PackageReference: D8; PackageDescription: 8-Pin Plastic Small Outline, Body 4.9 x 3.9 mm, Pitch 1.27 mm; Supplier 1: Digi-Key; Supplier Part Number 1: OPA690IDR-ND; Supplier 2: Newark; Supplier Part Number 2: 75C5193; Supplier 3: Mouser; Supplier Part Number 3: 595-OPA690IDR; Eco-Plan: Green (RoHS & no Sb/Br); Number of Channels: 1; Vs(Min)(V): 5; Mounting Technology: Surface Mount; Code_JEDEC: MS-012; ComponentLink1Description: Manufacturer URL; ComponentLink1URL: http://www.ti.com/; ComponentLink2Description: Datasheet; ComponentLink2URL: http://www.ti.com/general/docs/lit/getliterature.tsp?genericPartNumber=OPA690&fileType=pdf; ComponentLink3Description: Package Specification; ComponentLink3URL: http://www.ti.com/litv/pdf/msoi002j
footprint TI-D8_N (SOIC, 8-Leads, Body 4.9x3.9mm, Pitch 1.27mm, IPC Medium Density)
footprint TI-D8_L (SOIC, 8-Leads, Body 4.9x3.9mm, Pitch 1.27mm, IPC High Density)
footprint TI-D8_M (SOIC, 8-Leads, Body 4.9x3.9mm, Pitch 1.27mm, IPC Low Density)
pins: 1 NC, 2 IN- (in), 3 IN+ (in), 4 VS- (power), 5 NC, 6 OUT (hiz), 7 VS+ (power), 8 ~{DIS} (in)